# Altium schematic symbol library AA_holder.SchLib: 1 symbol
Pins are listed as number, name and electrical type; pins without a type are passive.

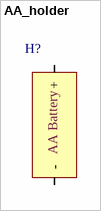
[diagram p0: symbol AA_holder]

## AA_holder
designator H?, comment AA holder  (value not drawn)
AA battery holder
footprint Battery holder
pins: 1 +, 2 -
text: AA Battery